# Altium schematic symbol library SCH - MCU - SI LABS - SI LABS EFM32TG11B120F128IM32 32-PIN QFN 5X5.SchLib: 1 symbol
Pins are listed as number, name and electrical type; pins without a type are passive.

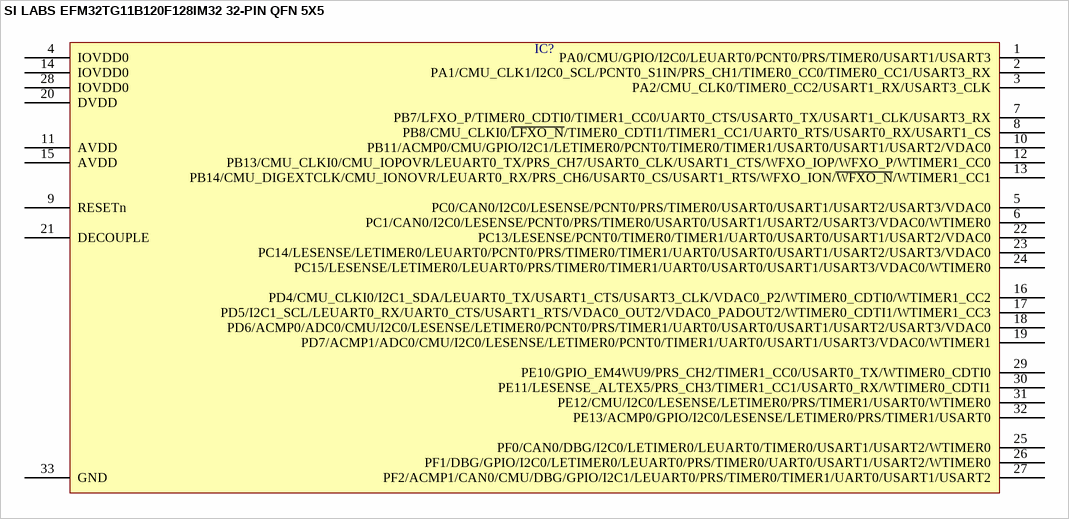
[diagram p0: symbol SI LABS EFM32TG11B120F128IM32 32-PIN QFN 5X5]

## SI LABS EFM32TG11B120F128IM32 32-PIN QFN 5X5
designator IC?  (value not drawn)
pins: 1 PA0/CMU/GPIO/I2C0/LEUART0/PCNT0/PRS/TIMER0/USART1/USART3, 2 PA1/CMU_CLK1/I2C0_SCL/PCNT0_S1IN/PRS_CH1/TIMER0_CC0/TIMER0_CC1/USART3_RX, 3 PA2/CMU_CLK0/TIMER0_CC2/USART1_RX/USART3_CLK, 4 IOVDD0, 5 PC0/CAN0/I2C0/LESENSE/PCNT0/PRS/TIMER0/USART0/USART1/USART2/USART3/VDAC0, 6 PC1/CAN0/I2C0/LESENSE/PCNT0/PRS/TIMER0/USART0/USART1/USART2/USART3/VDAC0/WTIMER0, 7 PB7/LFXO_P/TIMER0_CDTI0/TIMER1_CC0/UART0_CTS/USART0_TX/USART1_CLK/USART3_RX, 8 PB8/CMU_CLKI0/~{LFXO_N}/TIMER0_CDTI1/TIMER1_CC1/UART0_RTS/USART0_RX/USART1_CS, 9 RESETn, 10 PB11/ACMP0/CMU/GPIO/I2C1/LETIMER0/PCNT0/TIMER0/TIMER1/USART0/USART1/USART2/VDAC0, 11 AVDD, 12 PB13/CMU_CLKI0/CMU_IOPOVR/LEUART0_TX/PRS_CH7/USART0_CLK/USART1_CTS/WFXO_IOP/WFXO_P/WTIMER1_CC0, 13 PB14/CMU_DIGEXTCLK/CMU_IONOVR/LEUART0_RX/PRS_CH6/USART0_CS/USART1_RTS/WFXO_ION/~{WFXO_N}/WTIMER1_CC1, 14 IOVDD0, 15 AVDD, 16 PD4/CMU_CLKI0/I2C1_SDA/LEUART0_TX/USART1_CTS/USART3_CLK/VDAC0_P2/WTIMER0_CDTI0/WTIMER1_CC2, 17 PD5/I2C1_SCL/LEUART0_RX/UART0_CTS/USART1_RTS/VDAC0_OUT2/VDAC0_PADOUT2/WTIMER0_CDTI1/WTIMER1_CC3, 18 PD6/ACMP0/ADC0/CMU/I2C0/LESENSE/LETIMER0/PCNT0/PRS/TIMER1/UART0/USART0/USART1/USART2/USART3/VDAC0, 19 PD7/ACMP1/ADC0/CMU/I2C0/LESENSE/LETIMER0/PCNT0/TIMER1/UART0/USART1/USART3/VDAC0/WTIMER1, 20 DVDD, 21 DECOUPLE, 22 PC13/LESENSE/PCNT0/TIMER0/TIMER1/UART0/USART0/USART1/USART2/VDAC0, 23 PC14/LESENSE/LETIMER0/LEUART0/PCNT0/PRS/TIMER0/TIMER1/UART0/USART0/USART1/USART2/USART3/VDAC0, 24 PC15/LESENSE/LETIMER0/LEUART0/PRS/TIMER0/TIMER1/UART0/USART0/USART1/USART3/VDAC0/WTIMER0, 25 PF0/CAN0/DBG/I2C0/LETIMER0/LEUART0/TIMER0/USART1/USART2/WTIMER0, 26 PF1/DBG/GPIO/I2C0/LETIMER0/LEUART0/PRS/TIMER0/UART0/USART1/USART2/WTIMER0, 27 PF2/ACMP1/CAN0/CMU/DBG/GPIO/I2C1/LEUART0/PRS/TIMER0/TIMER1/UART0/USART1/USART2, 28 IOVDD0, 29 PE10/GPIO_EM4WU9/PRS_CH2/TIMER1_CC0/USART0_TX/WTIMER0_CDTI0, 30 PE11/LESENSE_ALTEX5/PRS_CH3/TIMER1_CC1/USART0_RX/WTIMER0_CDTI1, 31 PE12/CMU/I2C0/LESENSE/LETIMER0/PRS/TIMER1/USART0/WTIMER0, 32 PE13/ACMP0/GPIO/I2C0/LESENSE/LETIMER0/PRS/TIMER1/USART0, 33 GND